# Altium footprint library CAP.PcbLib: 19 footprints (part 1 of 2)
Each footprint in its own frame and in the unit in brackets; x right, y up, seen from the top. Pads: shape width x height; smd on the part's side, far side on the other; paste and mask are expansions set on the pad; w line width, h text height; cw(c..) or ccw(c..) is an arc to the next point about the centre after c.
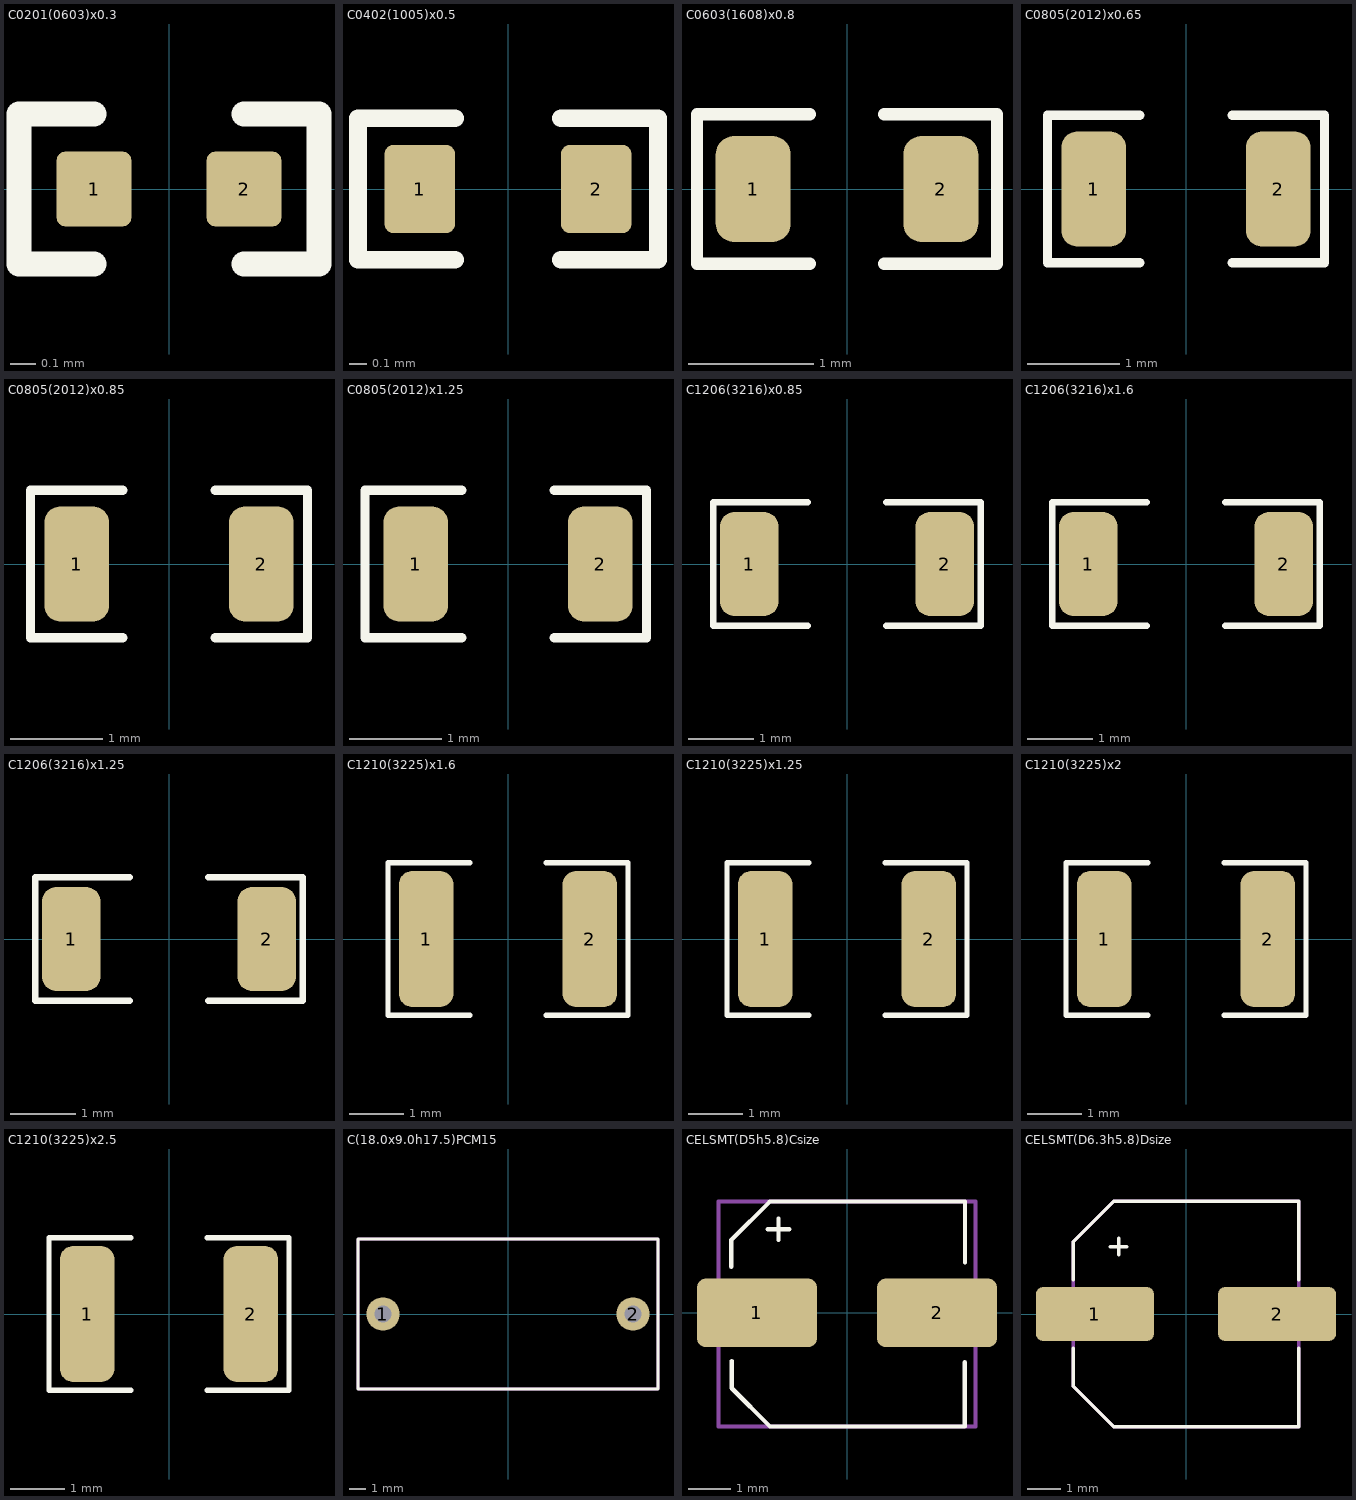
[diagram p0: the footprints below, top view; thin cyan lines are the x and y axes]

## C0201(0603)x0.3 [mm]
height 0.3
pads (2):
  rrect25% 0.3x0.3 smd paste-0.1 mask+0.102: 1(-0.3,0) 2(0.3,0)
Top Overlay:
  lines w0.1: -0.3,-0.3 -0.6,-0.3 -0.6,0.3 -0.3,0.3 ; 0.3,-0.3 0.6,-0.3 0.6,0.3 0.3,0.3
Top Paste:
  region: 0.285,0.135 0.315,0.135 0.339,0.135 0.383,0.117 0.417,0.083 0.435,0.039 0.435,0.015 0.435,-0.015 0.435,-0.039 0.417,-0.083 0.383,-0.117 0.339,-0.135 0.315,-0.135 0.285,-0.135 0.261,-0.135 0.217,-0.117 0.183,-0.083 0.165,-0.039 0.165,-0.015 0.165,0.015 0.165,0.039 0.183,0.083 0.217,0.117 0.261,0.135
  region: -0.285,0.135 -0.315,0.135 -0.339,0.135 -0.383,0.117 -0.417,0.083 -0.435,0.039 -0.435,0.015 -0.435,-0.015 -0.435,-0.039 -0.417,-0.083 -0.383,-0.117 -0.339,-0.135 -0.315,-0.135 -0.285,-0.135 -0.261,-0.135 -0.217,-0.117 -0.183,-0.083 -0.165,-0.039 -0.165,-0.015 -0.165,0.015 -0.165,0.039 -0.183,0.083 -0.217,0.117 -0.261,0.135
Top Solder:
  region: -0.425,0.25 0.425,0.25 0.45,0.25 0.496,0.231 0.531,0.196 0.55,0.15 0.55,0.125 0.55,-0.125 0.55,-0.15 0.531,-0.196 0.496,-0.231 0.45,-0.25 0.425,-0.25 -0.425,-0.25 -0.45,-0.25 -0.496,-0.231 -0.531,-0.196 -0.55,-0.15 -0.55,-0.125 -0.55,0.125 -0.55,0.15 -0.531,0.196 -0.496,0.231 -0.45,0.25
3D body "Cap 0201(0603)x30N.STEP": height 0.34, standoff 0, extent -0.3,-0.15 0.3,0.15

## C0402(1005)x0.5 [mm]
height 0.5
pads (2):
  rrect25% 0.4x0.5 smd mask+0.102: 1(-0.5,0) 2(0.5,0)
Top Overlay:
  lines w0.1: -0.3,-0.4 -0.85,-0.4 -0.85,0.4 -0.3,0.4 ; 0.3,-0.4 0.85,-0.4 0.85,0.4 0.3,0.4
3D body "Cap 0402(1005)x50N.STEP": height 0.51, standoff 0, extent -0.5,-0.25 0.5,0.25

## C0603(1608)x0.8 [mm]
height 0.8
pads (2):
  rrect50% 0.6x0.85 smd: 1(-0.75,0) 2(0.75,0)
Top Overlay:
  lines w0.1: -0.3,-0.6 -1.2,-0.6 -1.2,0.6 -0.3,0.6 ; 0.3,-0.6 1.2,-0.6 1.2,0.6 0.3,0.6
3D body "Cap 0603(1608)x80N.STEP": height 0.81, standoff 0, extent -0.8,-0.4 0.8,0.4

## C0805(2012)x0.65 [mm]
height 0.65
pads (2):
  rrect50% 0.7x1.25 smd: 1(-1,0) 2(1,0)
Top Overlay:
  lines w0.1: -0.5,-0.8 -1.5,-0.8 -1.5,0.8 -0.5,0.8 ; 0.5,-0.8 1.5,-0.8 1.5,0.8 0.5,0.8
3D body "Cap 0805(2012)x65N.STEP": height 0.66, standoff 0, extent -1,-0.625 1,0.625

## C0805(2012)x0.85 [mm]
height 0.85
pads (2):
  rrect50% 0.7x1.25 smd: 1(-1,0) 2(1,0)
Top Overlay:
  lines w0.1: -0.5,-0.8 -1.5,-0.8 -1.5,0.8 -0.5,0.8 ; 0.5,-0.8 1.5,-0.8 1.5,0.8 0.5,0.8
3D body "Cap 0805(2012)x85N.STEP": height 0.86, standoff 0, extent -1,-0.625 1,0.625

## C0805(2012)x1.25 [mm]
height 1.25
pads (2):
  rrect50% 0.7x1.25 smd: 1(-1,0) 2(1,0)
Top Overlay:
  lines w0.1: -0.5,-0.8 -1.55,-0.8 -1.55,0.8 -0.5,0.8 ; 0.5,-0.8 1.5,-0.8 1.5,0.8 0.5,0.8
3D body "Cap 0805(2012)x125N.STEP": height 1.26, standoff 0, extent -1,-0.625 1,0.625

## C1206(3216)x0.85 [mm]
height 0.85
pads (2):
  rrect50% 0.9x1.6 smd mask+0.102: 1(-1.5,0) 2(1.5,0)
Top Overlay:
  lines w0.1: -0.6,-0.95 -2.05,-0.95 -2.05,0.95 -0.6,0.95 ; 0.6,-0.95 2.05,-0.95 2.05,0.95 0.6,0.95
3D body "Cap 1206(3216)x85N.STEP": height 0.86, standoff 0, extent -1.6,-0.8 1.6,0.8

## C1206(3216)x1.6 [mm]
height 1.6
pads (2):
  rrect50% 0.9x1.6 smd mask+0.102: 1(-1.5,0) 2(1.5,0)
Top Overlay:
  lines w0.1: -0.6,-0.95 -2.05,-0.95 -2.05,0.95 -0.6,0.95 ; 0.6,-0.95 2.05,-0.95 2.05,0.95 0.6,0.95
3D body "Cap 1206(3216)x160N.STEP": height 1.61, standoff 0, extent -1.6,-0.8 1.6,0.8

## C1206(3216)x1.25 [mm]
height 1.25
pads (2):
  rrect50% 0.9x1.6 smd mask+0.102: 1(-1.5,0) 2(1.5,0)
Top Overlay:
  lines w0.1: -0.6,-0.95 -2.05,-0.95 -2.05,0.95 -0.6,0.95 ; 0.6,-0.95 2.05,-0.95 2.05,0.95 0.6,0.95
3D body "Cap 1206(3216)x125N.STEP": height 1.26, standoff 0, extent -1.6,-0.8 1.6,0.8

## C1210(3225)x1.6 [mm]
height 1.6
pads (2):
  rrect50% 1x2.5 smd: 1(-1.5,0) 2(1.5,0)
Top Overlay:
  lines w0.1: -0.7,-1.4 -2.2,-1.4 -2.2,1.4 -0.7,1.4 ; 0.7,-1.4 2.2,-1.4 2.2,1.4 0.7,1.4
3D body "Cap 1210(3225)x160N.STEP": height 1.61, standoff 0, extent -1.6,-1.25 1.6,1.25

## C1210(3225)x1.25 [mm]
height 1.25
pads (2):
  rrect50% 1x2.5 smd: 1(-1.5,0) 2(1.5,0)
Top Overlay:
  lines w0.1: -0.7,-1.4 -2.2,-1.4 -2.2,1.4 -0.7,1.4 ; 0.7,-1.4 2.2,-1.4 2.2,1.4 0.7,1.4
3D body "Cap 1210(3225)x125N.STEP": height 1.25, standoff 0, extent -1.6,-1.25 1.6,1.25

## C1210(3225)x2 [mm]
height 2
pads (2):
  rrect50% 1x2.5 smd: 1(-1.5,0) 2(1.5,0)
Top Overlay:
  lines w0.1: -0.7,-1.4 -2.2,-1.4 -2.2,1.4 -0.7,1.4 ; 0.7,-1.4 2.2,-1.4 2.2,1.4 0.7,1.4
3D body "Cap 1210(3225)x200N.STEP": height 2.01, standoff 0, extent -1.6,-1.25 1.6,1.25

## C1210(3225)x2.5 [mm]
height 2.5
pads (2):
  rrect50% 1x2.5 smd: 1(-1.5,0) 2(1.5,0)
Top Overlay:
  lines w0.1: -0.7,-1.4 -2.2,-1.4 -2.2,1.4 -0.7,1.4 ; 0.7,-1.4 2.2,-1.4 2.2,1.4 0.7,1.4
3D body "Cap 1210(3225)x250N.STEP": height 2.51, standoff 0, extent -1.6,-1.25 1.6,1.25

## C(18.0x9.0h17.5)PCM15 [mm]
pads (2):
  round 2 hole 1: 1(-7.5,0) 2(7.5,0)
Top Overlay:
  lines w0.2: -9,-4.5 9,-4.5 9,4.5 -9,4.5 -9,-4.5
Top Assembly:
  lines w0.2: -9,-4.5 9,-4.5 9,4.5 -9,4.5 -9,-4.5
3D body "User Library-FILM_BLUE_P1500L1800W900H1750PD80.step": height 17.5, standoff -5, extent -9,-4.5 9,4.5

## CELSMT(D5h5.8)Csize [mm] "El Cap D5h5.8"
height 5.4
pads (2):
  rrect25% 2.8x1.6 smd mask+0.102: 1(-2.1,0) 2(2.1,0)
Top Overlay:
  lines w0.1: -2.7,1.075 -2.7,1.7 -1.8,2.6 2.756,2.6 2.756,1.175 ; -2.69,-1.125 -2.69,-1.76 -1.798,-2.652 2.75,-2.652 2.75,-1.15 ; -1.85,1.95 -1.35,1.95 ; -1.6,1.7 -1.6,2.2
Top Assembly:
  lines w0.1: -3,-2.654 3,-2.654 3,2.6 -3,2.6 -3,-2.654
3D body "User Library-capacitor size C.step": height 5.41, standoff -0.01, extent -2.95,-2.65 2.95,2.65

## CELSMT(D6.3h5.8)Dsize [mm] "El Cap D6.3h5.8"
height 5.4
pads (2):
  rrect25% 3.5x1.6 smd mask+0.102: 1(-2.7,0) 2(2.7,0)
Top Overlay:
  lines w0.1: -3.35,-1.016 -3.35,-2.15 -2.15,-3.35 3.35,-3.35 3.35,-1.016 ; -3.35,1.016 -3.35,2.15 -2.15,3.35 3.35,3.35 3.35,1.016 ; -2.25,2 -1.75,2 ; -2,1.75 -2,2.25
Top Assembly:
  lines w0.1: -3.35,-2.15 -2.15,-3.35 3.35,-3.35 3.35,3.35 -2.15,3.35 -3.35,2.15 -3.35,-2.15
3D body "User Library-capacitor size D (1).step": height 5.41, standoff -0.01, extent -3.5,-3.3 3.5,3.3